# EAGLE library part #ECH81 (library E88CC)
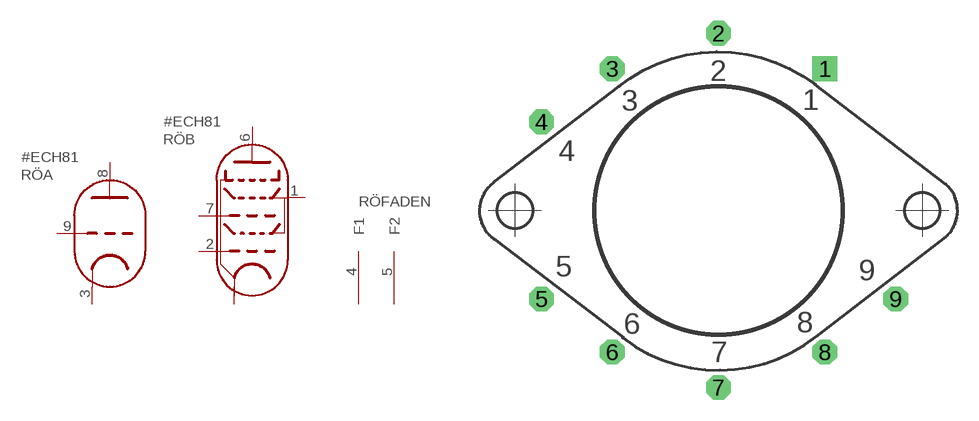
[diagram p15: symbol with the pads of NOVAL_G; footprint NOVAL_G]

Designator prefix RÖ; gates A=TRIODE B=HEPTODE FADEN=FADEN

## #ECH81  [NOVAL_G]
1  B:G2_G4  in
2  B:G1  in
3  A:K
4  FADEN:F1  pwr
5  FADEN:F2  pwr
6  B:A  out
7  B:G3  in
8  A:A  out
9  A:G  in

## Footprint NOVAL_G (pad centres in mm)
drill 1 pad 1.778 square: 1 7.62,10.16
drill 1 pad 1.778 octagon: 2 0,12.7; 3 -7.62,10.16; 4 -12.7,6.35; 5 -12.7,-6.35; 6 -7.62,-10.16; 7 0,-12.7; 8 7.62,-10.16; 9 12.7,-6.35